# EAGLE library part 418311170807 (library Wurth_Elektronik_Electromechanic_Switchs_rev15b)
WS-PT 2.54 mm piano type compact SMD Dip Switch with flat actuator, 7 Pole
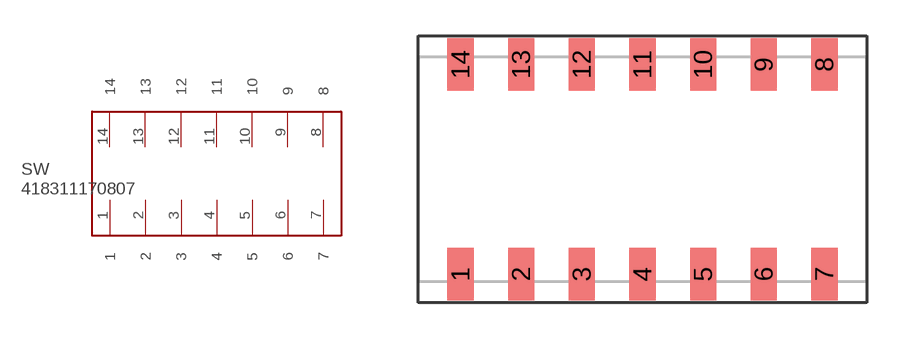
[diagram p129: symbol with the pads of 418311170807; footprint 418311170807]

Designator prefix SW

## 418311170807  [418311170807]
1  1
2  2
3  3
4  4
5  5
6  6
7  7
8  8
9  9
10  10
11  11
12  12
13  13
14  14

## Footprint 418311170807 (pad centres in mm)
WS-PT 2.54 mm piano type compact SMD Dip Switch with flat actuator, 7 Pole
smd 1.1 x 2.2: 1 0,-4.4; 2 2.54,-4.4; 3 5.08,-4.4; 4 7.62,-4.4; 5 10.16,-4.4; 6 12.7,-4.4; 7 15.24,-4.4; 8 15.24,4.4; 9 12.7,4.4; 10 10.16,4.4; 11 7.62,4.4; 12 5.08,4.4; 13 2.54,4.4; 14 0,4.4